# Altium integrated library Accelo Integrated_Library.IntLib: 22 symbols
Pins are listed as number, name and electrical type; pins without a type are passive.

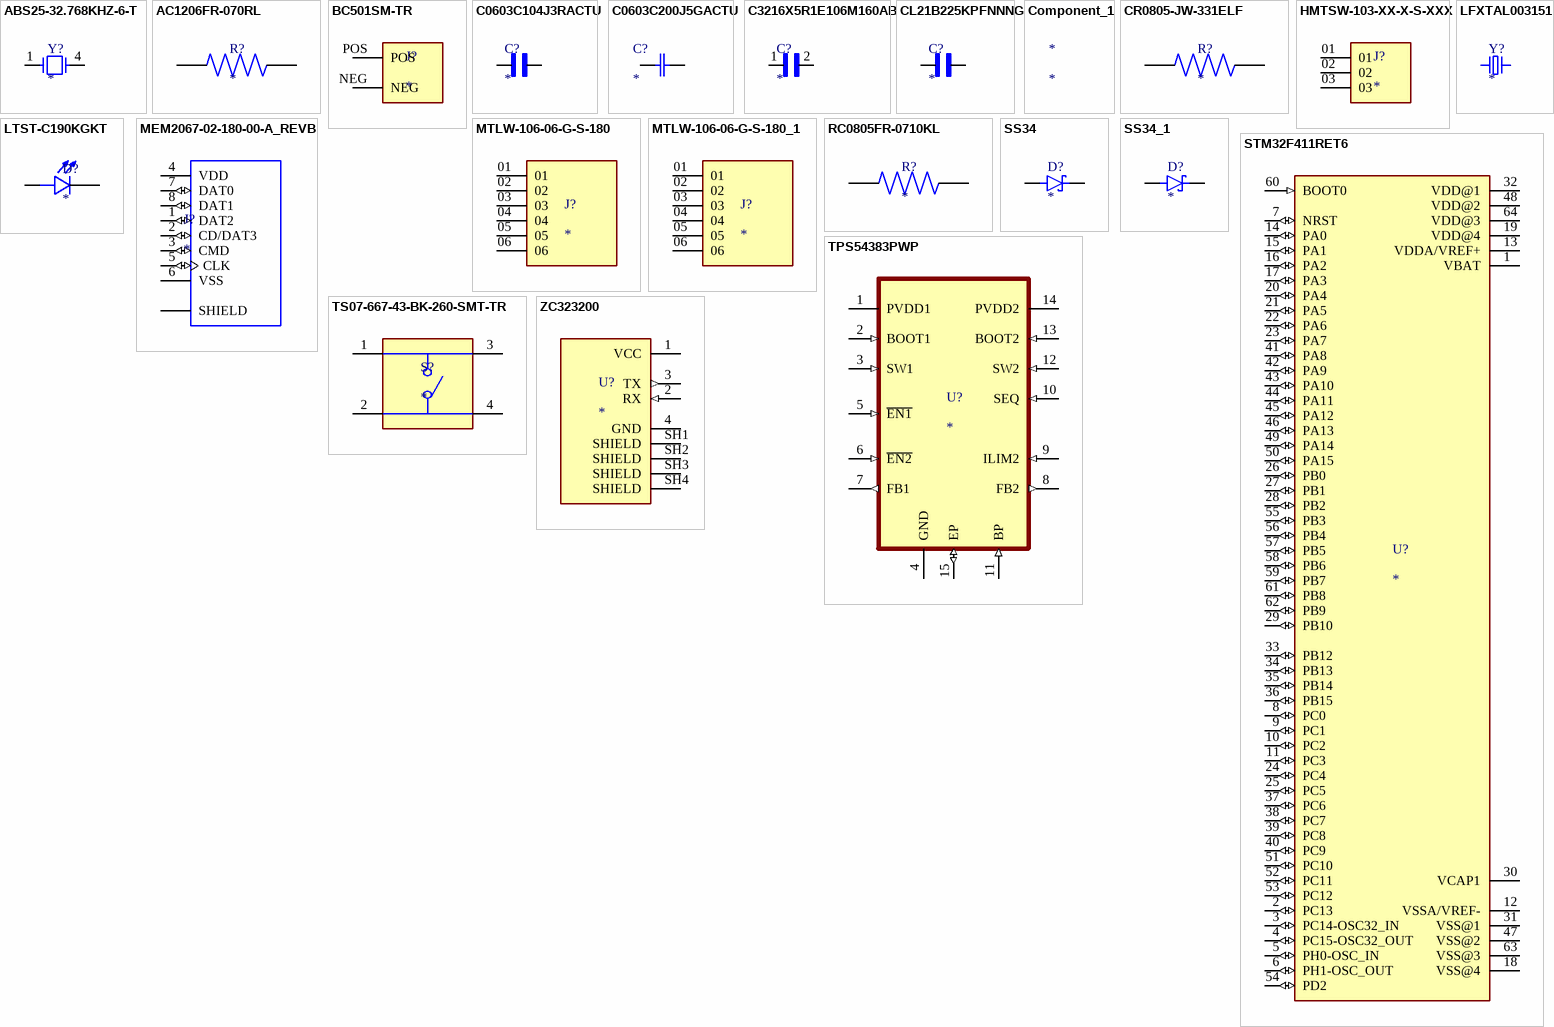
[diagram p0: symbols ABS25-32.768KHZ-6-T to ZC323200]

## ABS25-32.768KHZ-6-T
designator Y?
32.768 kHz Â±20ppm Crystal 6pF 50 kOhms 4-SOJ, 5.50mm pitch; MF: Abracon; MP: ABS25-32.768KHZ-6-T; SnapEDA_Link: https://www.snapeda.com/parts/ABS25-32.768KHZ-6-T/Abracon/view-part/?ref=snap; Package: 4-4 Abracon; Value: *; Check_prices: https://www.snapeda.com/parts/ABS25-32.768KHZ-6-T/Abracon/view-part/?ref=eda
footprint XTAL_ABS25-32.768KHZ-6-T
pins: 1, 4

## AC1206FR-070RL
designator R?
0 Ohms Jumper Chip Resistor 1206 (3216 Metric) Automotive AEC-Q200 Thick Film; MF: Yageo; MP: AC1206FR-070RL; SnapEDA_Link: https://www.snapeda.com/parts/AC1206FR-070RL/Yageo/view-part/?ref=snap; Package: SMD-2 Yageo; Value: *; Check_prices: https://www.snapeda.com/parts/AC1206FR-070RL/Yageo/view-part/?ref=eda
footprint RESC3116X65N
pins: 1, 2

## BC501SM-TR
designator J?
Battery Holder (Open) Coin, 12.0mm 1 Cell SMD (SMT) Tab; MF: MPD (Memory; MP: BC501SM-TR; SnapEDA_Link: https://www.snapeda.com/parts/BC501SM-TR/MPD/view-part/?ref=snap; Package: DFN-8 MPD; Value: *; Check_prices: https://www.snapeda.com/parts/BC501SM-TR/MPD/view-part/?ref=eda
footprint MPD_BC501SM-TR
pins: NEG, POS

## C0603C104J3RACTU
designator C?
0603 C 100nF Ceramic Multilayer Capacitor, 25 V, +125degC, X7R Dielectric, +/-5% | KEMET C0603C104J3RACTU; SnapEDA_Link: https://www.snapeda.com/parts/C0603C104J3RACTU/KEMET/view-part/?ref=snap; Package: 603-2 KEMET; Value: *; MF: KEMET; MP: C0603C104J3RACTU; Check_prices: https://www.snapeda.com/parts/C0603C104J3RACTU/KEMET/view-part/?ref=eda
footprint CAPC1608X90
pins: 1, 2

## C0603C200J5GACTU
designator C?
Capacitor Ceramic C0G 0603 50V 20pF | KEMET C0603C200J5GACTU; SnapEDA_Link: https://www.snapeda.com/parts/C0603C200J5GACTU/KEMET/view-part/?ref=snap; Package: 0603 Kemet; Value: *; MF: KEMET; MP: C0603C200J5GACTU; Check_prices: https://www.snapeda.com/parts/C0603C200J5GACTU/KEMET/view-part/?ref=eda
footprint CAPC1608X85N
pins: 1 C1, 2 C2

## C3216X5R1E106M160AB
designator C?
10ÂµF Â±20% 25V Ceramic Capacitor 1206 (3216 Metric); MF: TDK; MP: C3216X5R1E106M160AB; Check_prices: https://www.snapeda.com/parts/C3216X5R1E106M160AB/TDK/view-part/?ref=eda; Value: *; Digi-Key_Part_Number: 445-7708-2-ND; Package: 3216 TDK; Purchase-URL: https://pricing.snapeda.com/search/part/C3216X5R1E106M160AB/?ref=eda; SnapEDA_Link: https://www.snapeda.com/parts/C3216X5R1E106M160AB/TDK/view-part/?ref=snap
footprint CAPC3216X180N
pins: 1, 2

## CL21B225KPFNNNG
designator C?
2.2 ÂµF Â±10% 10V Ceramic Capacitor X7R 0805 (2012 Metric); MF: Samsung; MP: CL21B225KPFNNNG; SnapEDA_Link: https://www.snapeda.com/parts/CL21B225KPFNNNG/Samsung/view-part/?ref=snap; Package: SMD-2 Samsung; Value: *; Check_prices: https://www.snapeda.com/parts/CL21B225KPFNNNG/Samsung/view-part/?ref=eda
footprint CAPC2012X135N
pins: 1, 2

## Component_1
designator *

## CR0805-JW-331ELF
designator R?
Res 0805 330R 5% 125mW | Bourns CR0805-JW-331ELF; SnapEDA_Link: https://www.snapeda.com/parts/CR0805-JW-331ELF/Bourns/view-part/?ref=snap; Package: 0805 Bourns; Value: *; MF: Bourns; MP: CR0805-JW-331ELF; Check_prices: https://www.snapeda.com/parts/CR0805-JW-331ELF/Bourns/view-part/?ref=eda
footprint RESC2012X60N
pins: 1, 2

## HMTSW-103-XX-X-S-XXX
designator J?
Connector Unshrouded Header 3 Position 2.54mm Solder Straight Through Hole; MF: Samtec; MP: HMTSW-103-10-T-S-330; SnapEDA_Link: https://www.snapeda.com/parts/HMTSW-103-10-T-S-330/Samtec/view-part/?ref=snap; Package: None; Value: *; Check_prices: https://www.snapeda.com/parts/HMTSW-103-10-T-S-330/Samtec/view-part/?ref=eda
footprint SAMTEC_HMTSW-103-XX-X-S-XXX
pins: 01, 02, 03

## LFXTAL003151
designator Y?
8 MHz Â±30ppm Crystal 16pF 40 Ohms HC-49/US; MF: IQD Frequency Products; MP: LFXTAL003151; SnapEDA_Link: https://www.snapeda.com/parts/LFXTAL003151/IQD+Frequency+Products/view-part/?ref=snap; Package: HC-49/US IQD Frequency Products; Value: *; Check_prices: https://www.snapeda.com/parts/LFXTAL003151/IQD+Frequency+Products/view-part/?ref=eda
footprint WE-XTAL_HC49/4HSMX
pins: 1, 2

## LTST-C190KGKT
designator D?
MF: {'manufacturer': u'Lite-On Inc.'}; MP: LTST-C190KGKT; Package: None; Price: None; Value: *; Availability: Unavailable
footprint LEDC1608X35N
pins: A, C

## MEM2067-02-180-00-A_REVB
designator J?
Micro SD Memory Card ConnectorSMT, Hinged, 1.80mm Profile; MP: MEM2067-02-180-00-A_REVB; Price: None; Value: *; Package: None; Availability: Unavailable
footprint GCT_MEM2067-02-180-00-A_REVB
pins: 1 DAT2 (io), 2 CD/DAT3 (io), 3 CMD (io), 4 VDD (power), 5 CLK (io), 6 VSS (power), 7 DAT0 (io), 8 DAT1 (io), 9 SHIELD, 10 SHIELD, 11 SHIELD, 12 SHIELD

## MTLW-106-06-G-S-180
designator J?
MP: MTLW-106-06-G-S-180; Package: None; Price: None; Availability: Unavailable; Value: *
footprint SAMTEC_MTLW-106-06-G-S-180
pins: 01, 02, 03, 04, 05, 06

## MTLW-106-06-G-S-180_1
designator J?
MP: MTLW-106-06-G-S-180; Package: None; Price: None; Availability: Unavailable; Value: *
footprint SAMTEC_MTLW-106-06-G-S-180
pins: 01, 02, 03, 04, 05, 06

## RC0805FR-0710KL
designator R?
10 kOhms Â±1% 0.125W, 1/8W Chip Resistor 0805 (2012 Metric) Moisture Resistant Thick Film; MF: Yageo; MP: RC0805FR-0710KL; Value: *; SnapEDA_Link: https://www.snapeda.com/parts/RC0805FR-0710KL/Yageo/view-part/?ref=snap; Purchase-URL: https://pricing.snapeda.com/search/part/RC0805FR-0710KL/?ref=eda; Availability: In Stock; Price: None; Package: 2012 Rohm Semiconductor; Check_prices: https://www.snapeda.com/parts/RC0805FR-0710KL/Yageo/view-part/?ref=eda
footprint RESC2012X60N
pins: 1, 2

## SS34
designator D?
3A, 40V, Schottky Rectifier; MF: Taiwan Semiconductor; MP: SS34; SnapEDA_Link: https://www.snapeda.com/parts/SS34/taiwan/view-part/?ref=snap; Package: DO-214AB-2 Taiwan Semiconductor; Value: *; Check_prices: https://www.snapeda.com/parts/SS34/taiwan/view-part/?ref=eda
footprint DIO_SS34
pins: A, C K

## SS34_1
designator D?
3A, 40V, Schottky Rectifier; MF: Taiwan Semiconductor; MP: SS34; SnapEDA_Link: https://www.snapeda.com/parts/SS34/taiwan/view-part/?ref=snap; Package: DO-214AB-2 Taiwan Semiconductor; Value: *; Check_prices: https://www.snapeda.com/parts/SS34/taiwan/view-part/?ref=eda
footprint DIO_SS34
pins: A, C K

## STM32F411RET6
designator U?
ARMÂ® CortexÂ®-M4 STM32F4 Mikrodenetleyici IC 32-Bit Tek Ã‡ekirdek 100MHz 512KB (512K x 8) FLASH 64-LQFP (10x10); MF: STMicroelectronics; MP: STM32F411RET6; SnapEDA_Link: https://www.snapeda.com/parts/STM32F411RET6/STMicroelectronics/view-part/?ref=snap; Package: LQFP-64 STMicroelectronics; Value: *; Check_prices: https://www.snapeda.com/parts/STM32F411RET6/STMicroelectronics/view-part/?ref=eda
footprint QFP50P1200X1200X160-64N
pins: 1 VBAT (power), 2 PC13 (io), 3 PC14-OSC32_IN (io), 4 PC15-OSC32_OUT (io), 5 PH0-OSC_IN (io), 6 PH1-OSC_OUT (io), 7 NRST (io), 8 PC0 (io), 9 PC1 (io), 10 PC2 (io), 11 PC3 (io), 12 VSSA/VREF- (power), 13 VDDA/VREF+ (power), 14 PA0 (io), 15 PA1 (io), 16 PA2 (io), 17 PA3 (io), 18 VSS@4 (power), 19 VDD@4 (power), 20 PA4 (io), 21 PA5 (io), 22 PA6 (io), 23 PA7 (io), 24 PC4 (io), 25 PC5 (io), 26 PB0 (io), 27 PB1 (io), 28 PB2 (io), 29 PB10 (io), 30 VCAP1, 31 VSS@1 (power), 32 VDD@1 (power), 33 PB12 (io), 34 PB13 (io), 35 PB14 (io), 36 PB15 (io), 37 PC6 (io), 38 PC7 (io), 39 PC8 (io), 40 PC9 (io), 41 PA8 (io), 42 PA9 (io), 43 PA10 (io), 44 PA11 (io), 45 PA12 (io), 46 PA13 (io), 47 VSS@2 (power), 48 VDD@2 (power), 49 PA14 (io), 50 PA15 (io), 51 PC10 (io), 52 PC11 (io), 53 PC12 (io), 54 PD2 (io), 55 PB3 (io), 56 PB4 (io), 57 PB5 (io), 58 PB6 (io), 59 PB7 (io), 60 BOOT0 (in), 61 PB8 (io), 62 PB9 (io), 63 VSS@3 (power), 64 VDD@3 (power)

## TPS54383PWP
designator U?
MP: TPS54383PWP; Package: None; Price: None; Value: *; Availability: Unavailable
footprint IC_TPS27S100BPWPR
pins: 1 PVDD1 (power), 2 BOOT1 (in), 3 SW1 (in), 4 GND (power), 5 ~{EN1} (in), 6 ~{EN2} (in), 7 FB1 (out), 8 FB2 (out), 9 ILIM2 (in), 10 SEQ (in), 11 BP (in), 12 SW2 (in), 13 BOOT2 (in), 14 PVDD2 (power), 15 EP (io)

## TS07-667-43-BK-260-SMT-TR
designator S?
6 x 6.7 mm, 4.3 mm Actuator Height, 260 gf, Black, Surface Mount, SPST, Tactile Switch; MF: Same Sky; MP: TS07-667-43-BK-260-SMT-TR; SnapEDA_Link: https://www.snapeda.com/parts/TS07-667-43-BK-260-SMT-TR/Same+Sky/view-part/?ref=snap; Package: None; Value: *; Check_prices: https://www.snapeda.com/parts/TS07-667-43-BK-260-SMT-TR/Same+Sky/view-part/?ref=eda
footprint SW_TS07-667-43-BK-260-SMT-TR
pins: 1, 2, 3, 4

## ZC323200
designator U?
GY-NEO6MV2 GY-GPS6MV2 NEO-6M GPS Module with Flight Control APM2.5; MF: YKS; MP: ZC323200; SnapEDA_Link: https://www.snapeda.com/parts/ZC323200/YKS/view-part/?ref=snap; Package: None; Value: *; Check_prices: https://www.snapeda.com/parts/ZC323200/YKS/view-part/?ref=eda
footprint XCVR_ZC323200
pins: 1 VCC (power), 2 RX (in), 3 TX (out), 4 GND (power), SH1 SHIELD, SH2 SHIELD, SH3 SHIELD, SH4 SHIELD